# Altium schematic symbol library IC_Display_Driver.SchLib: 2 symbols
Pins are listed as number, name and electrical type; pins without a type are passive.

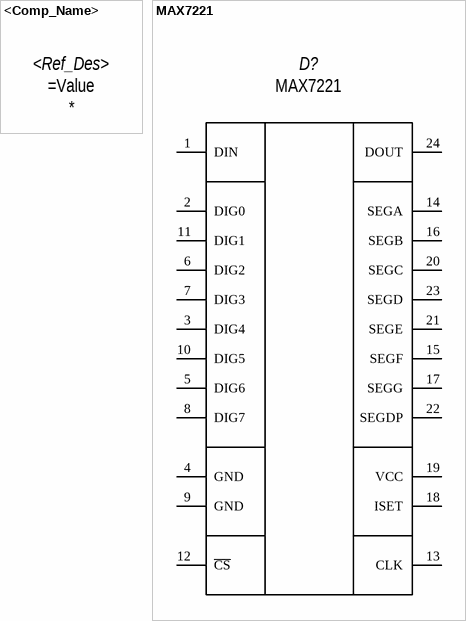
[diagram p0: symbols <Comp_Name> to MAX7221]

## <Comp_Name>
designator <Ref_Des>
<element_assignmen>; Manufacturer: *; HelpURL: *; Value: =Value

## MAX7221
designator D?  value MAX7221  (hidden comment: *)
7-seg common cathode display driver; Manufacturer: *; HelpURL: https://static.chipdip.ru/lib/060/DOC000060831.pdf
footprint SOIC24 (SOIC24 Package, 24 pins, Pitch 1.27mm)
pins: 1 DIN, 2 DIG0, 3 DIG4, 4 GND, 5 DIG6, 6 DIG2, 7 DIG3, 8 DIG7, 9 GND, 10 DIG5, 11 DIG1, 12 ~{CS}, 13 CLK, 14 SEGA, 15 SEGF, 16 SEGB, 17 SEGG, 18 ISET, 19 VCC, 20 SEGC, 21 SEGE, 22 SEGDP, 23 SEGD, 24 DOUT